# Altium schematic symbol library 0430450627.SchLib: 1 symbol
Pins are listed as number, name and electrical type; pins without a type are passive.

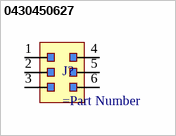
[diagram p0: symbol 0430450627]

## 0430450627
designator J?
=Description; Manufacturer: Molex; Manufacturer Part Number: 43045-0627; Connector Type: BOARD CONNECTOR; Option: General Purpose; Filter Feature: No; Mating Information: MULTIPLE MATING PARTS AVAILABLE; Number of Rows Loaded: 2; Number of Contacts: 6; Throw Configuration: S0P6; Board Mounting Option: PEG; Body/Shell Style: RECEPTACLE; Contact Resistance: 10mR; Contact Style: SQ PIN-SKT; Insertion Force-Max: 8.0064N; Insulation Resistance: 1GR; Number Of Connectors: 1; Rated Current (Signal): 2.5A; Withdrawl Force-Min: 3.5584N; Body Breadth: 0.29inch; Body Depth: 0.39inch; Body Length: 0.498inch; Mounting Option 1: LOCKING; Plating Thickness: 6uin; Reference Standard: UL; Reliability: COMMERCIAL; Supplier: Mouser; Supplier Part Number: 538-43045-0627; RoHS: Yes; Category: Headers and Wire Housings; Stock: 10335; Mounting Technology: Board; Contact Material: Brass; Contact Finish - Mating: TIN (100) OVER NICKEL; Contact Finish - Termination: TIN (100) OVER NICKEL; Insulation Color: Black; Insulation Material: Polymer; Min Operating Temperature: -40°C; Max Operating Temperature: 105°C; Contact Gender: Male; Mixed Contacts: No; Mounting Style: STRAIGHT; Termination: Solder; JESD-609 Code: e3; Terminal Pitch: 3mm; Terminal Length: 0.125inch; Flammability Rating: UL94 V-0; Reach SVHC Compliant: Yes; RoHS Compliant: Yes; DIN Conformance: No; IEC Conformance: No; MIL Conformance: No; ComponentLink1URL: https://datasheet.ciiva.com:443/pdfs/VipMasterIC/IC/MOLE/MOLE-S-A0001360181/MOLE-S-A0001399497-1.pdf?src-supplier=IHS+Markit; ComponentLink1Description: https://datasheet.ciiva.com:443/pdfs/VipMasterIC/IC/MOLE/MOLE-S-A0001360181/MOLE-S-A0001399497-1.pdf?src-supplier=IHS+Markit
pins: 1, 2, 3, 4, 5, 6